# Altium schematic symbol library Schlib3.SchLib: 5 symbols
Pins are listed as number, name and electrical type; pins without a type are passive.

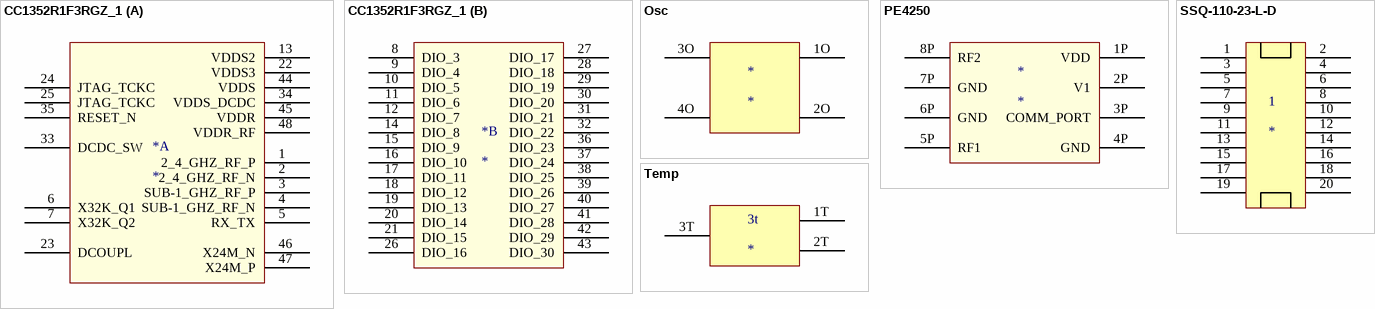
[diagram p0: symbols CC1352R1F3RGZ_1 to Temp]

## CC1352R1F3RGZ_1
designator *
footprint CC1352R (CQFP, 48-Leads, Body 7,40x7,40mm, Pitch 0,50mm, IPC Medium Density)
part A pins: 1 2_4_GHZ_RF_P, 2 2_4_GHZ_RF_N, 3 SUB-1_GHZ_RF_P, 4 SUB-1_GHZ_RF_N, 5 RX_TX, 6 X32K_Q1, 7 X32K_Q2, 13 VDDS2, 22 VDDS3, 23 DCOUPL, 24 JTAG_TCKC, 25 JTAG_TCKC, 33 DCDC_SW, 34 VDDS_DCDC, 35 RESET_N, 44 VDDS, 45 VDDR, 46 X24M_N, 47 X24M_P, 48 VDDR_RF
part B pins: 8 DIO_3, 9 DIO_4, 10 DIO_5, 11 DIO_6, 12 DIO_7, 14 DIO_8, 15 DIO_9, 16 DIO_10, 17 DIO_11, 18 DIO_12, 19 DIO_13, 20 DIO_14, 21 DIO_15, 26 DIO_16, 27 DIO_17, 28 DIO_18, 29 DIO_19, 30 DIO_20, 31 DIO_21, 32 DIO_22, 36 DIO_23, 37 DIO_24, 38 DIO_25, 39 DIO_26, 40 DIO_27, 41 DIO_28, 42 DIO_29, 43 DIO_30

## Osc
designator *
footprint OSC (SON, 4-Leads, Body 7,00x5,08mm, Pitch 5,08mm, IPC Medium Density)
pins: 1O, 2O, 3O, 4O

## PE4250
designator *
pins: 1P VDD, 2P V1, 3P COMM_PORT, 4P GND, 5P RF1, 6P GND, 7P GND, 8P RF2

## SSQ-110-23-L-D
designator 1
pins: 1, 2, 3, 4, 5, 6, 7, 8, 9, 10, 11, 12, 13, 14, 15, 16, 17, 18, 19, 20

## Temp
designator 3t
footprint SOT95P237X112-3N (SOT23, 3-Leads, Body 2,86x2,37mm, Pitch 0,95mm, IPC Medium Density)
pins: 1T, 2T, 3T